# Altium footprint library ESM-111A.PcbLib: 13 footprints
Each footprint in its own frame and in the unit in brackets; x right, y up, seen from the top. Pads: shape width x height; smd on the part's side, far side on the other; paste and mask are expansions set on the pad; w line width, h text height; cw(c..) or ccw(c..) is an arc to the next point about the centre after c.
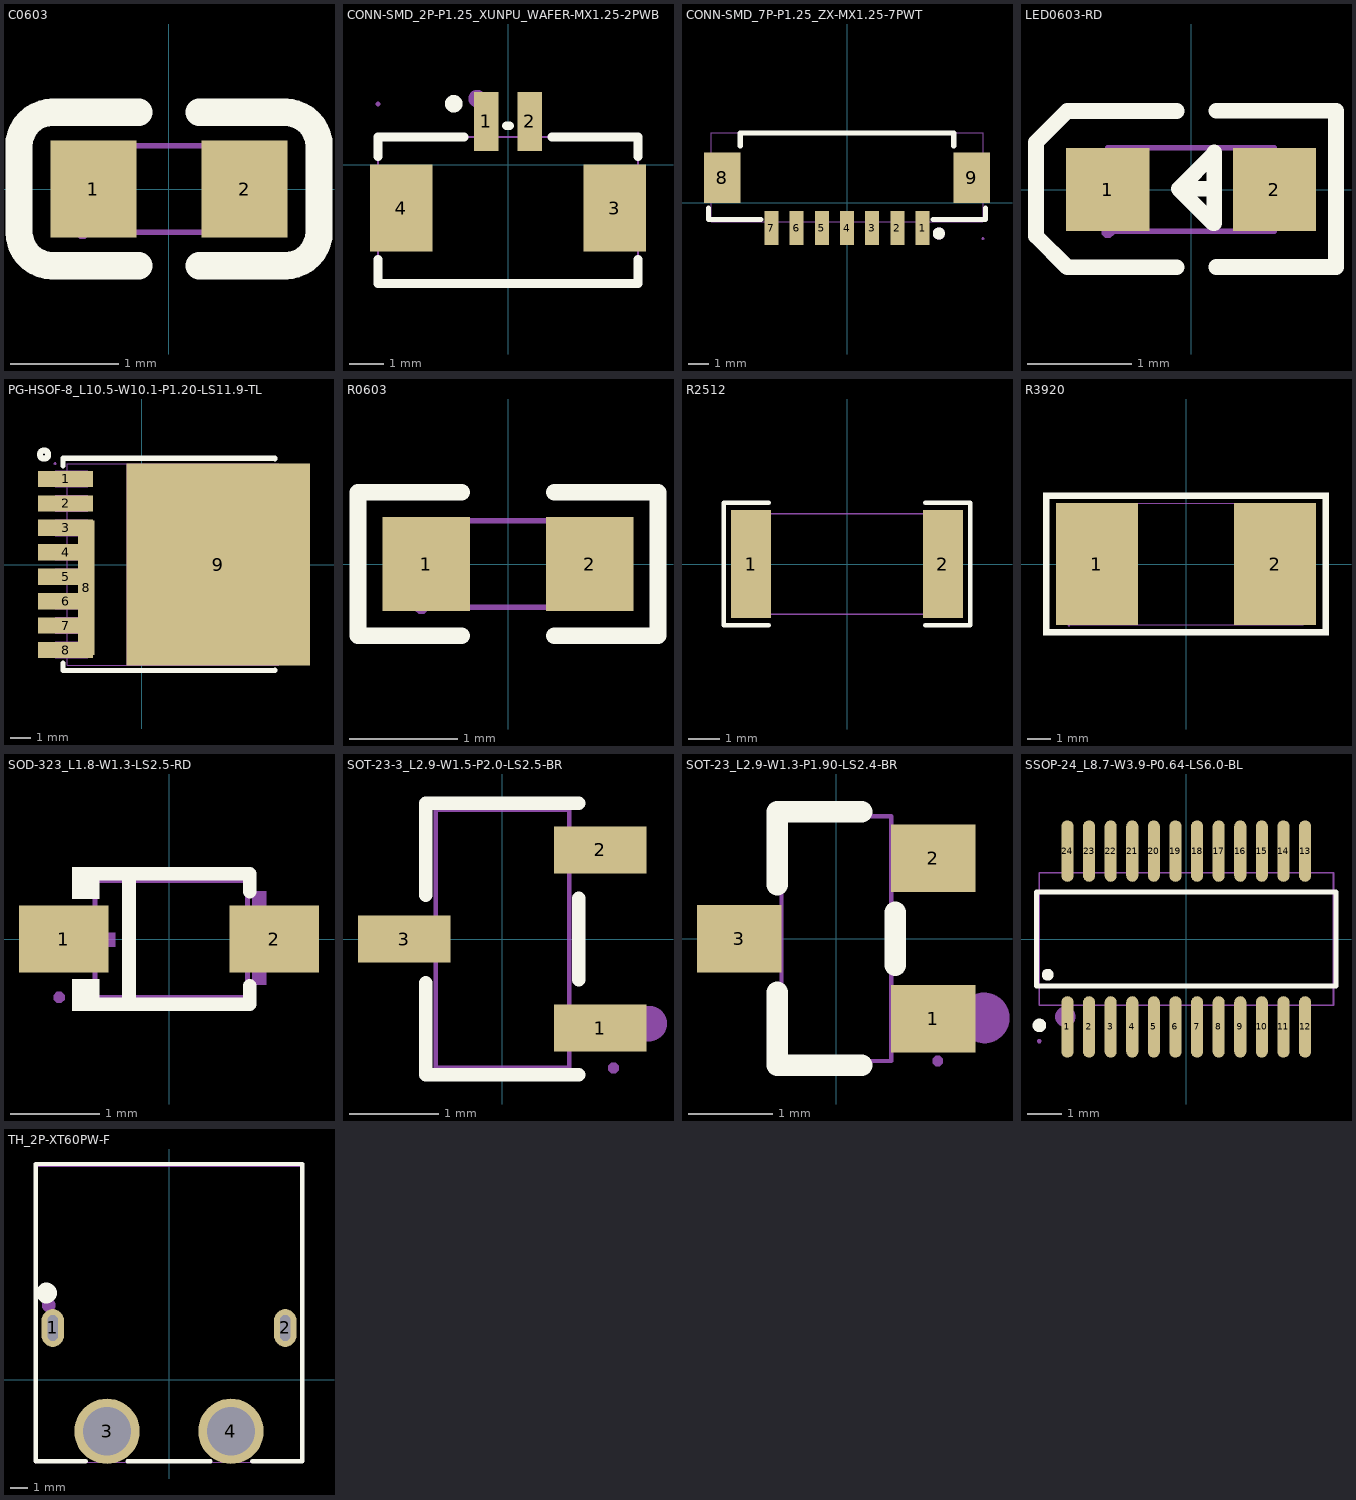
[diagram p0: the footprints below, top view; thin cyan lines are the x and y axes]

## C0603 [mm]
pads (2):
  rect 0.8x0.9 smd: 1(-0.7,0) 2(0.7,0)
Top Overlay:
  lines w0.254: -1.08,-0.71 -0.28,-0.71 ; -1.08,0.71 -0.28,0.71 ; -1.08,-0.71 cw(c-1.08,-0.4) -1.39,-0.4 -1.39,0.4 cw(c-1.08,0.4) -1.08,0.71 ; 0.28,-0.71 1.08,-0.71 ccw(c1.08,-0.4) 1.39,-0.4 1.39,0.4 ccw(c1.08,0.4) 1.08,0.71 0.28,0.71
Mechanical 15:
  region: -0.74,-0.4 -0.74,-0.425 -0.775,-0.46 -0.825,-0.46 -0.86,-0.425 -0.86,-0.4 -0.86,-0.375 -0.825,-0.34 -0.775,-0.34 -0.74,-0.375 -0.74,-0.4
  region: -0.8,-0.4 -0.8,0.4 -0.5,0.4 -0.5,-0.4
  region: 0.8,-0.4 0.8,0.4 0.5,0.4 0.5,-0.4
  lines w0.051: -0.8,-0.4 -0.8,0.4 0.8,0.4 0.8,-0.4 -0.8,-0.4

## CONN-SMD_2P-P1.25_XUNPU_WAFER-MX1.25-2PWB [mm]
pads (4):
  rect 0.7x1.7 smd paste+0 mask+0.05: 1(-0.625,1.25) 2(0.625,1.25)
  rect 1.8x2.5 smd paste+0 mask+0.05: 3(3.075,-1.25) 4(-3.075,-1.25)
Top Overlay:
  circle w0.254: c-1.564,1.758 r0.127
  lines w0.254: -3.75,-2.731 -3.75,-3.429 3.75,-3.429 3.75,-2.731 ; -3.75,0.231 -3.75,0.8 -1.27,0.8 ; -0.044,1.123 0.044,1.123 ; 1.27,0.8 3.75,0.8 3.75,0.231
Mechanical 6:
  circle w0.254: c-0.889,1.905 r0.127
Mechanical 15:
  region: -3.69,1.75 -3.69,1.725 -3.725,1.69 -3.775,1.69 -3.81,1.725 -3.81,1.75 -3.81,1.775 -3.775,1.81 -3.725,1.81 -3.69,1.775 -3.69,1.75
  region: -0.775,1.75 -0.475,1.75 -0.475,0.65 -0.775,0.65
  region: 0.475,1.75 0.775,1.75 0.775,0.65 0.475,0.65
  region: -3.675,-0.25 -2.475,-0.25 -2.475,-2.25 -3.675,-2.25
  region: 2.475,-0.25 3.675,-0.25 3.675,-2.25 2.475,-2.25
  lines w0.051: -3.75,-3.5 -3.75,0.8 3.75,0.8 3.75,-3.5 -3.75,-3.5

## CONN-SMD_7P-P1.25_ZX-MX1.25-7PWT [mm]
pads (9):
  rect 0.7x1.7 smd paste+0 mask+0.05: 1(3.75,-1.25) 2(2.5,-1.25) 3(1.25,-1.25) 4(0,-1.25) 5(-1.25,-1.25) 6(-2.5,-1.25) 7(-3.75,-1.25)
  rect 1.8x2.5 smd paste+0 mask+0.05: 8(-6.2,1.25) 9(6.2,1.25)
Top Overlay:
  circle w0.3: c4.562,-1.524 r0.15
  lines w0.254: -6.875,-0.25 -6.875,-0.825 -4.281,-0.825 ; -5.3,2.814 -5.3,3.475 5.3,3.475 5.3,2.814 ; 4.281,-0.825 6.875,-0.825 6.875,-0.25
Mechanical 6:
  circle w0.3: c4.562,-1.524 r0.15
  circle w0.3: c4.562,-1.524 r0.15
Mechanical 15:
  region: -5.45,0.25 -6.75,0.25 -6.75,2.25 -5.45,2.25
  region: 6.75,0.25 5.45,0.25 5.45,2.25 6.75,2.25
  region: 0.15,-1.775 -0.15,-1.775 -0.15,-0.675 0.15,-0.675
  region: 1.4,-1.775 1.1,-1.775 1.1,-0.675 1.4,-0.675
  region: 2.65,-1.775 2.35,-1.775 2.35,-0.675 2.65,-0.675
  region: 3.9,-1.775 3.6,-1.775 3.6,-0.675 3.9,-0.675
  region: -1.1,-1.775 -1.4,-1.775 -1.4,-0.675 -1.1,-0.675
  region: -2.35,-1.775 -2.65,-1.775 -2.65,-0.675 -2.35,-0.675
  region: -3.6,-1.775 -3.9,-1.775 -3.9,-0.675 -3.6,-0.675
  region: 6.81,-1.775 6.81,-1.8 6.775,-1.835 6.725,-1.835 6.69,-1.8 6.69,-1.775 6.69,-1.75 6.725,-1.715 6.775,-1.715 6.81,-1.75 6.81,-1.775
  lines w0.051: -6.75,-0.928 -6.75,3.472 6.75,3.472 6.75,-0.928 -6.75,-0.928

## LED0603-RD [mm]
pads (2):
  rect 0.8x0.8 smd: 1(-0.799,0) 2(0.799,0)
Top Overlay:
  lines w0.15: -0.14,-0.746 -1.19,-0.746 -1.49,-0.446 -1.49,-0.346 -1.49,0.354 -1.49,0.454 -1.19,0.754 -0.14,0.754 ; 0.22,0.007 -0.12,0.007 ; 0.24,-0.744 1.39,-0.744 ; 0.24,0.757 1.39,0.757 1.39,-0.723 ; -0.12,0.007 0.21,-0.324 0.22,-0.324 0.22,0.357 0.22,0.347 -0.12,0.007
Mechanical 6:
  region: -1.07,0.062 -0.53,0.062 -0.53,-0.068 -1.07,-0.068
  region: 0.735,-0.267 0.735,0.273 0.865,0.273 0.865,-0.267
  region: 0.529,0.068 1.069,0.068 1.069,-0.062 0.529,-0.062
Mechanical 15:
  region: -0.739,-0.403 -0.739,-0.428 -0.775,-0.463 -0.824,-0.463 -0.859,-0.428 -0.859,-0.403 -0.859,-0.379 -0.824,-0.344 -0.775,-0.344 -0.739,-0.379 -0.739,-0.403
  region: -0.8,-0.403 -0.8,0.397 -0.5,0.397 -0.5,-0.403
  region: 0.5,-0.396 0.5,0.404 0.8,0.404 0.8,-0.396
  lines w0.051: -0.8,-0.4 -0.8,0.4 0.8,0.4 0.8,-0.4 -0.8,-0.4

## PG-HSOF-8_L10.5-W10.1-P1.20-LS11.9-TL [mm]
pads (10):
  rect 2.7x0.8 smd paste-100 mask+0.051: 1(-3.75,4.2) 2(-3.75,3) 3(-3.75,1.8) 4(-3.75,0.6) 5(-3.75,-0.6) 6(-3.75,-1.8) 7(-3.75,-3) 8(-3.75,-4.2)
  rect 0.8x6.6 smd paste-100 mask+0.051: 8(-2.734,-1.134)
  rect 9x9.9 smd paste-100 mask+0.051: 9(3.75,0)
Top Overlay:
  circle w0.3: c-4.8,5.4 r0.2
  lines w0.254: -3.877,-4.831 -3.877,-5.198 6.537,-5.198 6.537,-5.181 ; -3.877,4.831 -3.877,5.216 6.537,5.216 6.537,5.181
Top Paste:
  region: -0.75,4.95 -0.75,-4.95 8.25,-4.95 8.25,4.95
  region: -5.1,4.6 -5.1,3.8 -2.4,3.8 -2.4,4.6
  region: -5.1,3.4 -5.1,2.6 -2.4,2.6 -2.4,3.4
  region: -5.1,2.2 -5.1,1.4 -3.134,1.4 -3.134,1 -5.1,1 -5.1,0.2 -3.134,0.2 -3.134,-0.2 -5.1,-0.2 -5.1,-1 -3.134,-1 -3.134,-1.4 -5.1,-1.4 -5.1,-2.2 -3.134,-2.2 -3.134,-2.6 -5.1,-2.6 -5.1,-3.4 -3.134,-3.4 -3.134,-3.8 -5.1,-3.8 -5.1,-4.6 -2.4,-4.6 -2.4,-4.434 -2.334,-4.434 -2.334,2.166 -2.4,2.166 -2.4,2.2
Mechanical 6:
  circle w0.4: c-3.89,4.223 r0.2
Mechanical 15:
  region: -4.205,4.95 -4.205,4.925 -4.241,4.89 -4.29,4.89 -4.325,4.925 -4.325,4.95 -4.325,4.975 -4.29,5.01 -4.241,5.01 -4.205,4.975 -4.205,4.95
  region: -4.265,3.8 -4.265,4.6 -2.665,4.6 -2.665,3.8
  region: -4.265,2.6 -4.265,3.4 -2.665,3.4 -2.665,2.6
  region: -4.265,1.4 -4.265,2.2 -2.665,2.2 -2.665,1.4
  region: -4.265,0.2 -4.265,1 -2.665,1 -2.665,0.2
  region: -4.265,-1 -4.265,-0.2 -2.665,-0.2 -2.665,-1
  region: -4.265,-2.2 -4.265,-1.4 -2.665,-1.4 -2.665,-2.2
  region: -4.265,-3.4 -4.265,-2.6 -2.665,-2.6 -2.665,-3.4
  region: -4.265,-4.6 -4.265,-3.8 -2.665,-3.8 -2.665,-4.6
  region: -2.665,2.2 -3.132,2.2 -3.132,-4.597 -3.135,-4.6 -2.67,-4.6 -2.667,-4.602
  region: 7.41,4.9 6.715,4.9 6.715,4.95 -0.75,4.95 -0.75,-4.95 6.715,-4.95 6.715,-4.9 7.415,-4.9 7.415,-3.75 7.115,-3.75 7.115,-0.65 7.415,-0.65 7.415,0.65 7.115,0.65 7.115,3.75 7.415,3.75 7.415,4.9
  lines w0.051: -3.666,-4.95 -3.666,4.95 6.734,4.95 6.734,-4.95 -3.666,-4.95

## R0603 [mm]
pads (2):
  rect 0.806x0.864 smd paste-100 mask+0.051: 1(-0.753,0) 2(0.753,0)
Top Overlay:
  lines w0.152: -0.426,-0.661 -1.385,-0.661 -1.385,0.661 -0.426,0.661 ; 0.426,-0.661 1.385,-0.661 1.385,0.661 0.426,0.661
Top Paste:
  region: 1.195,0.45 0.395,0.45 0.345,0.4 0.345,0.172 0.715,0.172 0.715,-0.158 0.345,-0.158 0.345,-0.4 0.395,-0.45 1.195,-0.45 1.245,-0.4 1.245,0.4
  region: -1.195,-0.45 -0.395,-0.45 -0.345,-0.4 -0.345,-0.172 -0.715,-0.172 -0.715,0.158 -0.345,0.158 -0.345,0.4 -0.395,0.45 -1.195,0.45 -1.245,0.4 -1.245,-0.4
Mechanical 15:
  region: -0.74,-0.4 -0.74,-0.425 -0.775,-0.46 -0.825,-0.46 -0.86,-0.425 -0.86,-0.4 -0.86,-0.375 -0.825,-0.34 -0.775,-0.34 -0.74,-0.375 -0.74,-0.4
  region: -0.8,-0.4 -0.8,0.4 -0.5,0.4 -0.5,-0.4
  region: 0.8,-0.4 0.8,0.4 0.5,0.4 0.5,-0.4
  lines w0.051: -0.8,-0.4 -0.8,0.4 0.8,0.4 0.8,-0.4 -0.8,-0.4

## R2512 [mm]
pads (2):
  rect 1.283x3.456 smd paste-100 mask+0.051: 1(-3.066,0) 2(3.066,0)
Top Overlay:
  lines w0.152: -2.501,-1.957 -3.936,-1.957 -3.936,1.957 -2.501,1.957 ; 2.501,-1.957 3.936,-1.957 3.936,1.957 2.501,1.957
Top Paste:
  region: 2.425,-1.628 2.425,-0.688 2.525,-0.588 2.761,-0.588 2.861,-0.488 2.861,0.488 2.761,0.588 2.525,0.588 2.425,0.688 2.425,1.628 2.525,1.728 3.608,1.728 3.708,1.628 3.708,-1.628 3.608,-1.728 2.525,-1.728
  region: -2.425,-1.628 -2.425,-0.688 -2.525,-0.588 -2.761,-0.588 -2.861,-0.488 -2.861,0.488 -2.761,0.588 -2.525,0.588 -2.425,0.688 -2.425,1.628 -2.525,1.728 -3.608,1.728 -3.708,1.628 -3.708,-1.628 -3.608,-1.728 -2.525,-1.728
Mechanical 15:
  region: -3.115,-1.6 -3.115,-1.625 -3.15,-1.66 -3.2,-1.66 -3.235,-1.625 -3.235,-1.6 -3.235,-1.575 -3.2,-1.54 -3.15,-1.54 -3.115,-1.575 -3.115,-1.6
  region: -3.15,-1.6 -3.15,1.6 -2.55,1.6 -2.55,-1.6
  region: 2.55,-1.6 2.55,1.6 3.15,1.6 3.15,-1.6
  lines w0.051: -3.15,-1.6 -3.15,1.6 3.15,1.6 3.15,-1.6 -3.15,-1.6

## R3920 [mm]
pads (2):
  rect 3.5x5.2 smd: 1(-3.81,0) 2(3.81,0)
Top Overlay:
  region: -6.096,-3.048 -6.096,3.048 -5.842,3.048 6.096,3.048 6.096,2.794 -5.842,2.794 -5.842,-3.048
  region: 6.096,3.048 6.096,-3.048 5.842,-3.048 5.842,2.794
  region: 5.842,-3.048 -5.842,-3.048 -5.842,-2.794 5.842,-2.794
Mechanical 15:
  region: -4.94,-2.6 -4.94,-2.625 -4.975,-2.66 -5.025,-2.66 -5.06,-2.625 -5.06,-2.6 -5.06,-2.575 -5.025,-2.54 -4.975,-2.54 -4.94,-2.575 -4.94,-2.6
  region: -5,2.6 -2.25,2.6 -2.25,-2.6 -5,-2.6
  region: 5,-2.6 2.25,-2.6 2.25,2.6 5,2.6
  lines w0.051: -5,-2.6 5,-2.6 5,2.6 -5,2.6 -5,-2.6

## SOD-323_L1.8-W1.3-LS2.5-RD [mm]
pads (2):
  rect 1x0.75 smd: 1(-1.173,0) 2(1.173,0)
Top Overlay:
  region: -0.775,0.802 -0.775,0.45 -1.08,0.45 -1.08,0.802
  region: -0.775,-0.802 -0.775,-0.45 -1.08,-0.45 -1.08,-0.802
  lines w0.152: -0.851,-0.726 0.901,-0.726 0.901,-0.52 ; -0.851,0.726 0.901,0.726 0.901,0.53 ; -0.447,-0.726 -0.447,0.726
Mechanical 6:
  region: -1.225,0.07 -1.225,-0.086 -0.601,-0.086 -0.601,0.07
  region: 1.315,0.09 1.315,-0.066 0.691,-0.066 0.691,0.09
  region: 1.083,0.53 1.083,-0.51 0.927,-0.51 0.927,0.53
Mechanical 15:
  region: -1.165,-0.65 -1.165,-0.675 -1.2,-0.71 -1.25,-0.71 -1.285,-0.675 -1.285,-0.65 -1.285,-0.625 -1.25,-0.59 -1.2,-0.59 -1.165,-0.625 -1.165,-0.65
  region: 1.275,0.16 1.275,-0.16 0.975,-0.16 0.975,0.16
  region: 0.985,0.16 0.985,-0.16 0.865,-0.16 0.865,0.16
  region: -0.925,0.16 -0.925,-0.16 -1.225,-0.16 -1.225,0.16
  region: -0.815,0.16 -0.815,-0.16 -0.935,-0.16 -0.935,0.16
  lines w0.051: -0.825,-0.65 0.875,-0.65 0.875,0.65 -0.825,0.65 -0.825,-0.65

## SOT-23-3_L2.9-W1.5-P2.0-LS2.5-BR [mm]
pads (3):
  rect 1.037x0.532 smd: 1(1.101,-1) 2(1.101,1) 3(-1.101,0)
Top Overlay:
  lines w0.152: -0.859,-0.495 -0.859,-1.526 0.859,-1.526 ; -0.859,0.495 -0.859,1.526 0.859,1.526 ; 0.859,-0.455 0.859,0.455
Mechanical 6:
  circle w0.2: c1.65,-0.95 r0.1
Mechanical 15:
  region: 0.85,-1.2 0.85,-0.8 1.25,-0.8 1.25,-1.2
  region: 0.74,-1.2 0.74,-0.8 0.86,-0.8 0.86,-1.2
  region: 0.85,0.8 0.85,1.2 1.25,1.2 1.25,0.8
  region: 0.74,0.8 0.74,1.2 0.86,1.2 0.86,0.8
  region: -1.25,-0.2 -1.25,0.2 -0.85,0.2 -0.85,-0.2
  region: -0.86,-0.2 -0.86,0.2 -0.74,0.2 -0.74,-0.2
  region: 1.31,-1.448 1.31,-1.473 1.275,-1.508 1.225,-1.508 1.19,-1.473 1.19,-1.448 1.19,-1.423 1.225,-1.388 1.275,-1.388 1.31,-1.423 1.31,-1.448
  lines w0.051: -0.745,-1.448 -0.745,1.452 0.755,1.452 0.755,-1.448 -0.745,-1.448

## SOT-23_L2.9-W1.3-P1.90-LS2.4-BR [mm]
pads (3):
  rect 1x0.8 smd: 1(1.15,-0.95) 2(1.15,0.95) 3(-1.15,0)
Top Overlay:
  lines w0.254: -0.7,-0.636 -0.7,-1.5 0.3,-1.5 ; -0.7,0.636 -0.7,1.5 0.3,1.5 ; 0.7,-0.314 0.7,0.314
Mechanical 6:
  circle w0.3: c1.753,-0.94 r0.15
Mechanical 15:
  region: 1.26,-1.45 1.26,-1.475 1.225,-1.51 1.175,-1.51 1.14,-1.475 1.14,-1.45 1.14,-1.425 1.175,-1.39 1.225,-1.39 1.26,-1.425 1.26,-1.45
  region: 0.64,-1.15 0.64,-0.75 0.81,-0.75 0.81,-1.15
  region: 0.8,-1.15 0.8,-0.75 1.2,-0.75 1.2,-1.15
  region: 0.64,0.75 0.64,1.15 0.81,1.15 0.81,0.75
  region: 0.8,0.75 0.8,1.15 1.2,1.15 1.2,0.75
  region: -0.81,-0.2 -0.81,0.2 -0.64,0.2 -0.64,-0.2
  region: -1.2,-0.2 -1.2,0.2 -0.8,0.2 -0.8,-0.2
  lines w0.051: -0.65,-1.45 -0.65,1.45 0.65,1.45 0.65,-1.45 -0.65,-1.45

## SSOP-24_L8.7-W3.9-P0.64-LS6.0-BL [mil]
pads (24):
  oval 14x71.06 smd: 1(-137.5,-101.77) 2(-112.5,-101.77) 3(-87.5,-101.77) 4(-62.5,-101.77) 5(-37.5,-101.77) 6(-12.5,-101.77) 7(12.5,-101.77) 8(37.5,-101.77) 9(62.5,-101.77) 10(87.5,-101.77) 11(112.5,-101.77) 12(137.5,-101.77) 13(137.5,101.77) 14(112.5,101.77) 15(87.5,101.77) 16(62.5,101.77) 17(37.5,101.77) 18(12.5,101.77) 19(-12.5,101.77) 20(-37.5,101.77) 21(-62.5,101.77) 22(-87.5,101.77) 23(-112.5,101.77) 24(-137.5,101.77)
Top Overlay:
  circle w7.87: c-170,-100 r3.94
  circle w6.89: c-160.39,-41.35 r3.44
  lines w6: -173.28,-54.24 173.28,-54.24 173.28,54.24 -173.28,54.24 -173.28,-54.24
Mechanical 6:
  circle w11.81: c-140,-90 r5.91
Mechanical 15:
  drawing of 53 lines, arcs and shapes, not listed

## TH_2P-XT60PW-F [mm]
pads (4):
  oval 1.3x2.2 hole 0.6 slot 1.5 at 90 deg paste-2539.97 mask+0.05: 1(-6.75,3) 2(6.75,3)
  round 3.8 hole 2.8 paste-2539.97 mask+0.05: 3(-3.6,-3) 4(3.6,-3)
Top Overlay:
  circle w0.6: c-7.112,5.032 r0.3
  lines w0.254: -4.826,-4.747 -7.747,-4.747 -7.747,12.525 7.747,12.525 7.747,-4.747 4.826,-4.747 ; -2.413,-4.747 2.413,-4.747
Mechanical 6:
  circle w0.4: c-6.985,4.318 r0.2
Mechanical 15:
  region: -2.35,-3 -2.35,-3.165 -2.435,-3.483 -2.6,-3.768 -2.832,-4 -3.117,-4.165 -3.435,-4.25 -3.765,-4.25 -4.082,-4.165 -4.368,-4 -4.6,-3.768 -4.765,-3.483 -4.85,-3.165 -4.85,-3 -4.85,-2.835 -4.765,-2.517 -4.6,-2.232 -4.368,-2 -4.082,-1.835 -3.765,-1.75 -3.435,-1.75 -3.117,-1.835 -2.832,-2 -2.6,-2.232 -2.435,-2.517 -2.35,-2.835 -2.35,-3
  region: 4.85,-3 4.85,-3.165 4.765,-3.483 4.6,-3.768 4.368,-4 4.082,-4.165 3.765,-4.25 3.435,-4.25 3.117,-4.165 2.832,-4 2.6,-3.768 2.435,-3.483 2.35,-3.165 2.35,-3 2.35,-2.835 2.435,-2.517 2.6,-2.232 2.832,-2 3.117,-1.835 3.435,-1.75 3.765,-1.75 4.082,-1.835 4.368,-2 4.6,-2.232 4.765,-2.517 4.85,-2.835 4.85,-3
  region: -7.69,-4.8 -7.69,-4.825 -7.725,-4.86 -7.775,-4.86 -7.81,-4.825 -7.81,-4.8 -7.81,-4.775 -7.775,-4.74 -7.725,-4.74 -7.69,-4.775 -7.69,-4.8
  region: -6.575,3.55 -6.575,2.45 -6.925,2.45 -6.925,3.55
  region: 6.925,3.55 6.925,2.45 6.575,2.45 6.575,3.55
  lines w0.051: -7.75,-4.8 -7.75,12.4 7.75,12.4 7.75,-4.8 -7.75,-4.8